# Altium schematic symbol library RespiradorLib.SchLib: 73 symbols
Pins are listed as number, name and electrical type; pins without a type are passive.

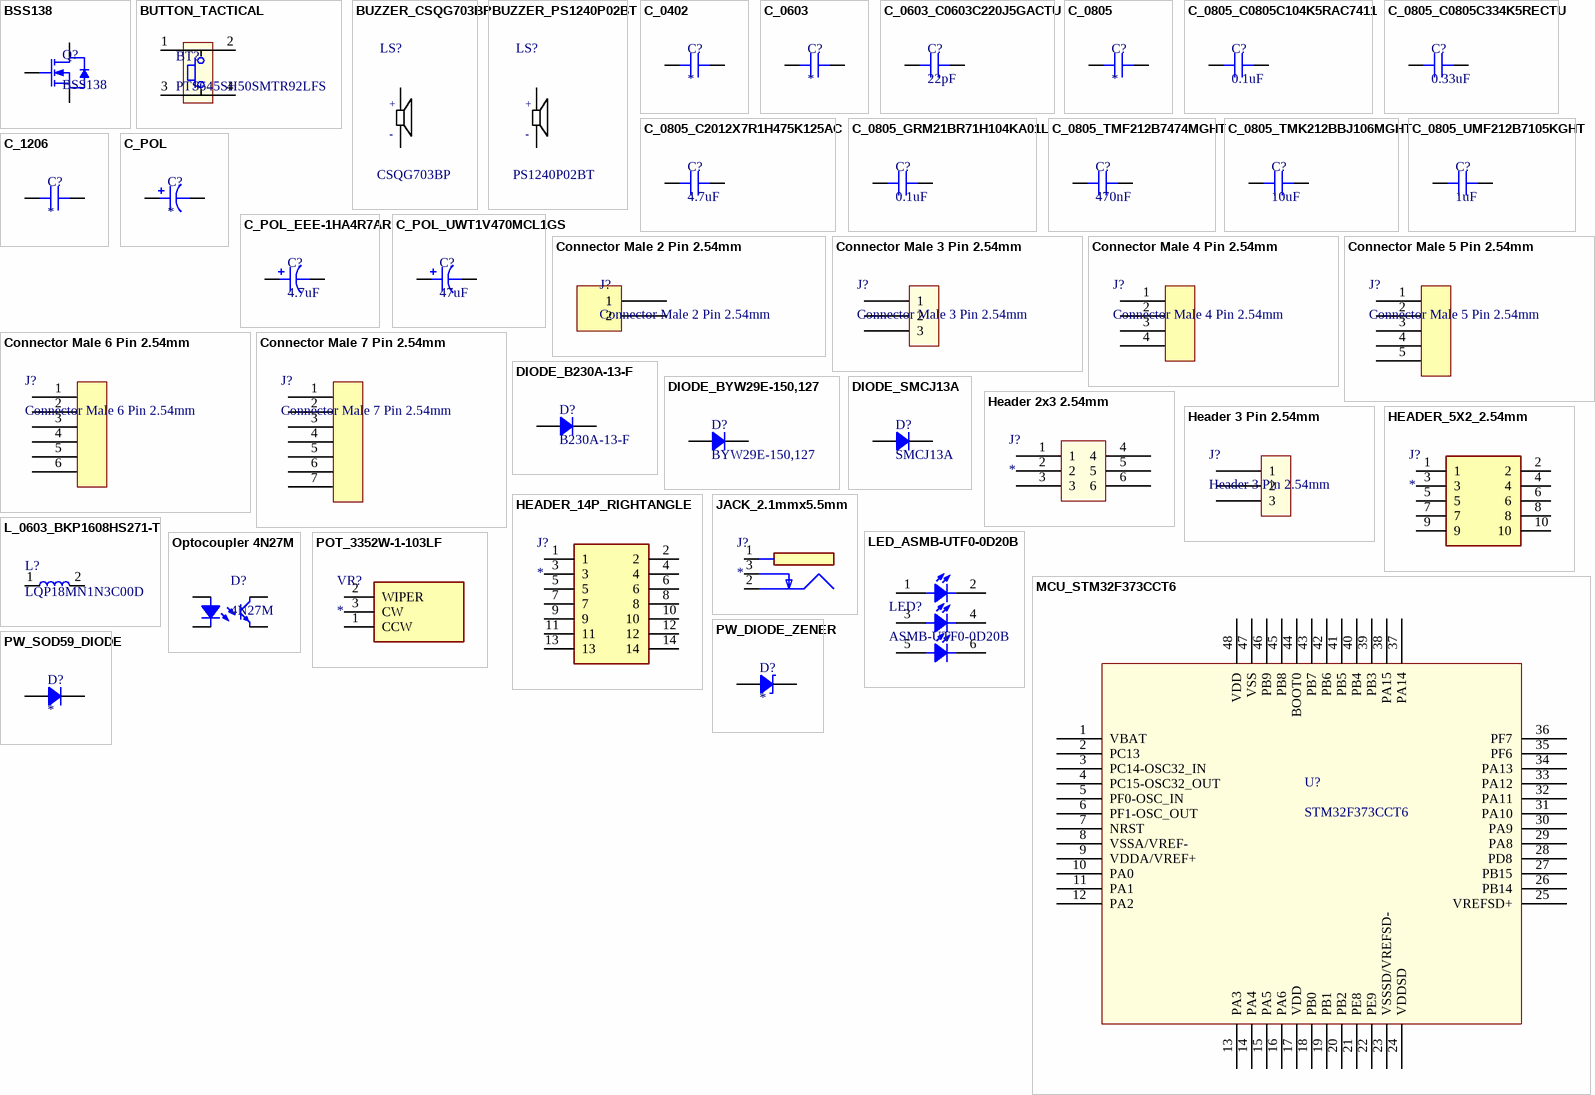
[diagram p0: symbols BSS138 to PW_SOD59_DIODE]

## BSS138
designator Q?
MOSFET SOT-23 N-CH LOGIC; Part Number: BSS138; Datasheet: https://br.mouser.com/datasheet/2/308/BSS138-D-1658842.pdf; Supplier: https://br.mouser.com/ProductDetail/ON-Semiconductor-Fairchild/BSS138?qs=sGAEpiMZZMshyDBzk1%2FWi1qxDdW%2FXBi2IwQV99jpxW8%3D
footprint SOT-23
pins: 1 G, 2 S, 3 D

## BUTTON_TACTICAL
designator BT?, comment PTS645SH50SMTR92LFS
Tactile Switches SWITCH TACTILE; Part Number: PTS645SH50SMTR92LFS; Datasheet: https://www.mouser.in/datasheet/2/60/pts645-1382776.pdf; Supplier: https://www.mouser.in/ProductDetail/CK/PTS645SH50SMTR92LFS?qs=FESYatJ8odJq4YGoPOs%2Fjw==
footprint BUTTON_TACTILE_6x6mm
pins: 1, 2, 3, 4

## BUZZER_CSQG703BP
designator LS?, comment CSQG703BP
BUZZER MAG 2.0KHZ 3V 12MM; Value: 2kHz; Part Number: CSQG703BP; Datasheet: https://www.mouser.in/datasheet/2/670/csqg703bp-1777646.pdf; Supplier: https://www.mouser.in/ProductDetail/CUI-Devices/CSQG703BP?qs=WyjlAZoYn50CcIWMleVumg==
footprint BUZZER_THT
pins: N, P
text: +; -

## BUZZER_PS1240P02BT
designator LS?, comment PS1240P02BT
Piezo Buzzer Round 12.2mmx6.5mm 4kHz Vin=3V; Value: 4kHz; Part Number: PS1240P02BT; Datasheet: https://br.mouser.com/datasheet/2/400/iezoelectronic_buzzer_ps_en-1131915.pdf; Supplier: https://br.mouser.com/ProductDetail/TDK/PS1240P02BT?qs=sGAEpiMZZMsK322k1rNFfYfXmCWsjkB8iQfg2vl062k%3D
footprint BUZZER_THT
pins: 1, 2
text: +; -

## C_0402
designator C?
Generic SMD 0402 Capacitor; Value: *; Voltage: *; Datasheet: *; Manufacturer: *; Supplier: *; Temperature: *; Part Number: *
pins: 1, 2

## C_0603
designator C?
Generic SMD 0603 Capacitor; Value: *; Voltage: *; Datasheet: *; Manufacturer: *; Supplier: *; Temperature: *; Part Number: *
footprint C_0603
pins: 1, 2

## C_0603_C0603C220J5GACTU
designator C?, comment 22pF
SMD/SMT 50V 22pF 0603 C0G 5%; Manufacturer: KEMET; Part Number: C0603C220J5GACTU; Value: 22pF; Voltage: 50V; Datasheet: https://www.mouser.in/datasheet/2/212/KEM_C1003_C0G_SMD-1101588.pdf; Supplier: https://www.mouser.in/ProductDetail/?qs=SdEwkH2X7htVYoqIlDdZ9g%3D%3D; Temperature: -55 to +125ºC
footprint C_0603
pins: 1, 2

## C_0805
designator C?
Generic SMD 0805 Capacitor; Value: *; Voltage: *; Datasheet: *; Manufacturer: *; Supplier: *; Temperature: *; Part Number: *
footprint C_0805
pins: 1, 2

## C_0805_C0805C104K5RAC7411
designator C?, comment 0.1uF
SMD/SMT 50V 0.1uF X7R 0805 10% Ceramic; Manufacturer: KEMET; Part Number: C0805C104K5RAC7411; Value: 0.1uF; Voltage: 50V; Datasheet: https://www.mouser.in/datasheet/2/212/KEM_C1002_X7R_SMD-1102033.pdf; Supplier: https://www.mouser.in/ProductDetail/KEMET/C0805C104K5RAC7411?qs=sGAEpiMZZMukHu%252BjC5l7YUy%2FB4dg%2FhTABr7B0xlsxU8%3D; Temperature: -55 to +125ºC
footprint C_0805
pins: 1, 2

## C_0805_C0805C334K5RECTU
designator C?, comment 0.33uF
SMD/SMT 50V 0.33uF X7R 0805 10%; Manufacturer: KEMET; Part Number: C0805C334K5RECTU; Value: 0.33uF; Voltage: 50V; Datasheet: https://br.mouser.com/datasheet/2/212/KEM_C1090_X7R_ESD-1103328.pdf; Supplier: https://br.mouser.com/ProductDetail/KEMET/C0805C334K5RECTU?qs=sGAEpiMZZMukHu%252BjC5l7YW4TDpT9cCWZSWBJF89q8JI%3D; Temperature: -55 to +125ºC
footprint C_0805
pins: 1, 2

## C_0805_C2012X7R1H475K125AC
designator C?, comment 4.7uF
SMD/SMT 0805 50VDC 4.7uF 10% X7R CERAMIC; Manufacturer: TDK; Part Number: C2012X7R1H475K125AC; Voltage: 50V; Value: 4.7uF; Datasheet: https://www.mouser.in/datasheet/2/400/lcc_commercial_general_en-837201.pdf; Supplier: https://www.mouser.in/ProductDetail/TDK/C2012X7R1H475K125AC?qs=sGAEpiMZZMukHu%252BjC5l7YTxxtVIkCgfDBgHpaxQ5Dmw%3D; Temperature: -55 to 125ºC
footprint C_0805
pins: 1, 2

## C_0805_GRM21BR71H104KA01L
designator C?, comment 0.1uF
CAP CER .1UF 50V 10% X7R 080; Part Number: GRM21BR71H104KA01L; Datasheet: https://br.mouser.com/datasheet/2/281/murata_03052018_GRM_Series_1-1310166.pdf; Supplier: https://br.mouser.com/ProductDetail/Murata-Electronics/GRM21BR71H104KA01L?qs=JovLnzPPZAL81o2XNDa%2FDA%3D%3D; Value: 0.1uF; Voltage: 50V
footprint C_0805
pins: 1, 2

## C_0805_TMF212B7474MGHT
designator C?, comment 470nF
SMD/SMT 0805 25V 0.47uF 20% AEC-Q200 CERAMIC; Manufacturer: Taiyo Yuden; Part Number: TMF212B7474MGHT; Value: 470nF; Voltage: 25V; Datasheet: https://www.mouser.in/datasheet/2/396/taiyo_yuden_07182019_MLCC_AECQ200_Grade_1_X7R_data-1622917.pdf; Supplier: https://www.mouser.in/ProductDetail/Taiyo-Yuden/TMF212B7474MGHT?qs=sGAEpiMZZMsG1k5vdNM%2Fc7bY%2FOucpQAyE73L7mDgTXo%3D; Temperature: -55 to +125ºC
footprint C_0805
pins: 1, 2

## C_0805_TMK212BBJ106MGHT
designator C?, comment 10uF
SMD/SMT 0805 25VDC 10uF 20% X5R AEC-Q200 CERAMIC; Manufacturer: Tayo Yuden; Part Number: TMK212BBJ106MGHT; Voltage: 25V; Value: 10uF; Datasheet: https://www.mouser.in/datasheet/2/396/taiyo_yuden_12132018_mlcc11_hq_e-1510082.pdf; Supplier: https://www.mouser.in/ProductDetail/Taiyo-Yuden/TMK212BBJ106MGHT?qs=sGAEpiMZZMtzPgOfznR9QaDzwJ03Pr9rLOL4CwkSISA%3D; Temperature: -55 to 125ºC
footprint C_0805
pins: 1, 2

## C_0805_UMF212B7105KGHT
designator C?, comment 1uF
SMD/SMT 0805 50V 1uF 10% AEC-Q200 Ceramic; Manufacturer: Taiyo Yuden; Part Number: UMF212B7105KGHT; Value: 1uF; Voltage: 50V; Datasheet: https://www.mouser.in/datasheet/2/396/taiyo_yuden_07182019_MLCC_AECQ200_Grade_1_X7R_data-1622917.pdf; Supplier: https://www.mouser.in/ProductDetail/Taiyo-Yuden/UMF212B7105KGHT?qs=sGAEpiMZZMukHu%252BjC5l7YbZJogKwR3uAsvk8LFV85oI%3D; Temperature: -55 to 125ºC
footprint C_0805
pins: 1, 2

## C_1206
designator C?
Generic SMD 1206 Capacitor; Value: *; Voltage: *; Datasheet: *; Manufacturer: *; Supplier: *; Temperature: *; Part Number: *
pins: 1, 2

## C_POL
designator C?
SMT Polarised Capacitor; Part Number: *; Datasheet: *; Supplier: *; Value: *; Voltage: *
footprint CAP_POL_D6.3MM_L5.8MM_H6.6MM
pins: 1, 2

## C_POL_EEE-1HA4R7AR
designator C?, comment 4.7uF
CAP ELECT 4.7UF 50V VS SMD; Part Number: EEE-1HA4R7AR; Datasheet: https://www.mouser.in/datasheet/2/315/ABA0000C1142-947446.pdf; Supplier: https://www.mouser.in/ProductDetail/Panasonic/EEE-1HA4R7AR?qs=d1CqaRUMZD931BLbVb3quQ%3D%3D; Value: 4.7uF; Voltage: 50V
footprint CAP_POL_D6.3MM_L5.8MM_H6.6MM
pins: 1, 2

## C_POL_UWT1V470MCL1GS
designator C?, comment 47uF
CAP 47UF 35V ELECT WT SMD D6.3MM L5.8MM H 6.6MM; Part Number: UWT1V470MCL1GS; Datasheet: https://br.mouser.com/datasheet/2/293/e-wt-30307.pdf; Supplier: https://br.mouser.com/ProductDetail/Nichicon/UWT1V470MCL1GS?qs=ljCeji4nMDl8Y30ehuNAUQ%3D%3D; Value: 47uF; Voltage: 35V
footprint CAP_POL_D6.3MM_L5.8MM_H6.6MM
pins: 1, 2

## Connector Male 2 Pin 2.54mm
designator J?
MOLEX Male 2 Pin 2.54mm; Datasheet: *; Supplier: *
pins: 1, 2

## Connector Male 3 Pin 2.54mm
designator J?
MOLEX Male 3 Pin 2.54mm; Datasheet: *; Supplier: *
pins: 1, 2, 3

## Connector Male 4 Pin 2.54mm
designator J?
MOLEX Male 4 Pin 2.54mm; Datasheet: *; Supplier: *
pins: 1, 2, 3, 4

## Connector Male 5 Pin 2.54mm
designator J?
MOLEX Male 5 Pin 2.54mm; Datasheet: *; Supplier: *
pins: 1, 2, 3, 4, 5

## Connector Male 6 Pin 2.54mm
designator J?
MOLEX Male 6 Pin 2.54mm; Datasheet: *; Supplier: *
pins: 1, 2, 3, 4, 5, 6

## Connector Male 7 Pin 2.54mm
designator J?
MOLEX Male 7 Pin 2.54mm; Datasheet: *; Supplier: *
pins: 1, 2, 3, 4, 5, 6, 7

## DIODE_B230A-13-F
designator D?, comment B230A-13-F
DIODE SCHOTTKY 30V 2A SMA; Part Number: B230A-13-F; Supplier: https://br.mouser.com/ProductDetail/Diodes-Incorporated/B230A-13-F?qs=CWr0IvVDl%2FzIzEFfZQUtSw%3D%3D; Datasheet: https://br.mouser.com/datasheet/2/115/ds13004-70120.pdf; Voltage: 30V; Power: *
footprint DO-214AC
pins: 1, 2

## DIODE_BYW29E-150,127
designator D?, comment BYW29E-150,127
DIODE RECT UFAST 150V TO220AC SOD59; Part Number: BYW29E-150,127; Supplier: https://br.mouser.com/ProductDetail/WeEn-Semiconductors/BYW29E-150127?qs=me8TqzrmIYVz9CWyXJlNFA%3D%3D; Datasheet: https://br.mouser.com/datasheet/2/848/byw29e-150-1520821.pdf; Voltage: 150V; Power: *
footprint TO-220-2
pins: 1, 2

## DIODE_SMCJ13A
designator D?, comment SMCJ13A
DIODE TVS 13V 1500W UNI 5% SMC DO-214AB-2_; Voltage: 150V; Part Number: SMCJ13A; Supplier: https://br.mouser.com/ProductDetail/Littelfuse/SMCJ13A?qs=JJML70Qc14udM04Txwcydg%3D%3D; Datasheet: https://br.mouser.com/datasheet/2/848/byw29e-150-1520821.pdf; Power: 1500W
footprint DO-214AB-2
pins: 1, 2

## Header 2x3 2.54mm
designator J?
Header Pin 3x2  2.54mm; Part Number: 87227-3; Datasheet: https://www.te.com/commerce/DocumentDelivery/DDEController?Action=srchrtrv&DocNm=87227&DocType=Customer+Drawing&DocLang=English&PartCntxt=87227-3&DocFormat=pdf; Supplier: https://br.mouser.com/ProductDetail/TE-Connectivity/87227-3?qs=VKrXD49J9EpsiWT5W3Xtnw==
footprint Header 3x2 2.54mm
pins: 1, 2, 3, 4, 5, 6

## Header 3 Pin 2.54mm
designator J?
Datasheet: https://br.mouser.com/datasheet/2/276/0022285033_PCB_HEADERS-159031.pdf; Supplier: https://br.mouser.com/ProductDetail/Molex/22-28-5033?qs=sGAEpiMZZMs%252BGHln7q6pmxD%2F5kNJnZVepHUluVJbZ54%3D
footprint Header 3 Pin 2.54mm
pins: 1, 2, 3

## HEADER_5X2_2.54mm
designator J?
Headers & Wire Housings 10 POSITION DBL. ROW; Part Number: 67997-410HLF; Datasheet: https://www.amphenol-icc.com/media/wysiwyg/files/documentation/datasheet/boardwiretoboard/bwb_bergstik.pdf; Supplier: https://www.mouser.in/ProductDetail/Amphenol-FCI/67997-410HLF?qs=sGAEpiMZZMsMLZWdhVL71zU2Dhk42U5G
footprint HEADER_5X2_2.54mm
pins: 1, 2, 3, 4, 5, 6, 7, 8, 9, 10

## HEADER_14P_RIGHTANGLE
designator J?
Header Right angle THT 2X7; Part Number: 10129382-914002BLF; Datasheet: https://cdn.amphenol-icc.com/media/wysiwyg/files/documentation/datasheet/boardwiretoboard/bwb_econostik_254headers.pdf; Supplier: https://www.mouser.in/ProductDetail/Amphenol-FCI/10129382-914002BLF?qs=sGAEpiMZZMve4%2FbfQkoj%252BHB6ZEiaBxPJNtcSGZNe8mE%3D
footprint HEADER_14P_RIGHT
pins: 1, 2, 3, 4, 5, 6, 7, 8, 9, 10, 11, 12, 13, 14

## JACK_2.1mmx5.5mm
designator J?
Jack/Connector 2.1mm x 5.5mm; Part Number: CON-SOCJ-2155; Manufacturer: Gravitech; Datasheet: http://www.gravitech.us/poja2x51.html; Supplier: https://br.mouser.com/ProductDetail/Gravitech/CON-SOCJ-2155?qs=sGAEpiMZZMvtrnhC60i%252BOueHg%2FyK0jmoLPszqcLww24%3D
footprint JACK_2.1mmx5.5mm
pins: 1, 2, 3

## L_0603_BKP1608HS271-T
designator L?, comment LQP18MN1N3C00D
FERRITE BEAD 270 OHM 0603; Value: 100MHz; Datasheet: https://www.mouser.in/datasheet/2/396/mlci08_e-1396622.pdf; Supplier: https://www.mouser.in/ProductDetail/Taiyo-Yuden/BKP1608HS271-T?qs=I6KAKw0tg2zbDi4vUs5b8A==
footprint *INDC1608X95
footprint L_0603
pins: 1, 2

## LED_ASMB-UTF0-0D20B
designator LED?, comment ASMB-UTF0-0D20B
SMD 2828 Tricolor PLCC6 LEDs; Forward Voltage: 2.1V; Forward Current: 25mA; Datasheet: https://docs.broadcom.com/doc/ASMB-UTF0-0D20B-DS100; Supplier: https://www.mouser.in/ProductDetail/Broadcom/ASMB-UTF0-0D20B?qs=sGAEpiMZZMtilyJihmhKq2AQS22fZSBSgD7nbSPNdwMclln52G2Icg%3D%3D; Part Number: ASMB-UTF0-0D20B
footprint LED_ASMB-UTF0-0D20B
pins: 1 RA, 2 RC, 3 GA, 4 GC, 5 BA, 6 BC

## MCU_STM32F373CCT6
designator U?, comment STM32F373CCT6
CORTEX-M4 ST MCU; Part Number: STM32F373CCT6; Datasheet: https://www.mouser.in/datasheet/2/389/dm00046749-1797329.pdf; Supplier: https://www.mouser.in/ProductDetail/STMicroelectronics/STM32F373CCT6?qs=sGAEpiMZZMts0YcPTleK%252BfFyenw%2F%252BoXO
footprint MCU_STM32F373CC7
pins: 1 VBAT, 2 PC13, 3 PC14-OSC32_IN, 4 PC15-OSC32_OUT, 5 PF0-OSC_IN, 6 PF1-OSC_OUT, 7 NRST, 8 VSSA/VREF-, 9 VDDA/VREF+, 10 PA0, 11 PA1, 12 PA2, 13 PA3, 14 PA4, 15 PA5, 16 PA6, 17 VDD, 18 PB0, 19 PB1, 20 PB2, 21 PE8, 22 PE9, 23 VSSSD/VREFSD-, 24 VDDSD, 25 VREFSD+, 26 PB14, 27 PB15, 28 PD8, 29 PA8, 30 PA9, 31 PA10, 32 PA11, 33 PA12, 34 PA13, 35 PF6, 36 PF7, 37 PA14, 38 PA15, 39 PB3, 40 PB4, 41 PB5, 42 PB6, 43 PB7, 44 BOOT0, 45 PB8, 46 PB9, 47 VSS, 48 VDD

## Optocoupler 4N27M
designator D?, comment 4N27M
4N27M OPTOCOUPLER TRANS-OUT 6-DIP; Part Number: 4N27M; Datasheet: https://br.mouser.com/datasheet/2/239/775704_1-1175530.pdf; Supplier: https://br.mouser.com/ProductDetail/Lite-On/4N27M?qs=gnaPJ2cis710wpcgziU08w%3D%3D
footprint DIP6
pins: 1, 2, 3, 4

## POT_3352W-1-103LF
designator VR?
Variable Resistor; Manufacturer_Name: Bourns; Manufacturer_Part_Number: 3352W-1-103LF; Datasheet Link: https://componentsearchengine.com/Datasheets/1/3352W-1-103LF.pdf; Height: 8mm; Mouser2 Part Number: 652-3352W-1-103LF; Mouser2 Price/Stock: https://www.mouser.com/Search/Refine.aspx?Keyword=652-3352W-1-103LF
footprint POT_3352W1103LF
pins: 1 CCW, 2 WIPER, 3 CW

## PW_DIODE_ZENER
designator D?
SMT Zener Diode; Datasheet: *; Part Number: *; Supplier: *; Voltage: *; Power: *
pins: 1, 2

## PW_SOD59_DIODE
designator D?
Power Diode; Part Number: *; Supplier: *; Datasheet: *; Voltage: *; Power: *
pins: 1, 2

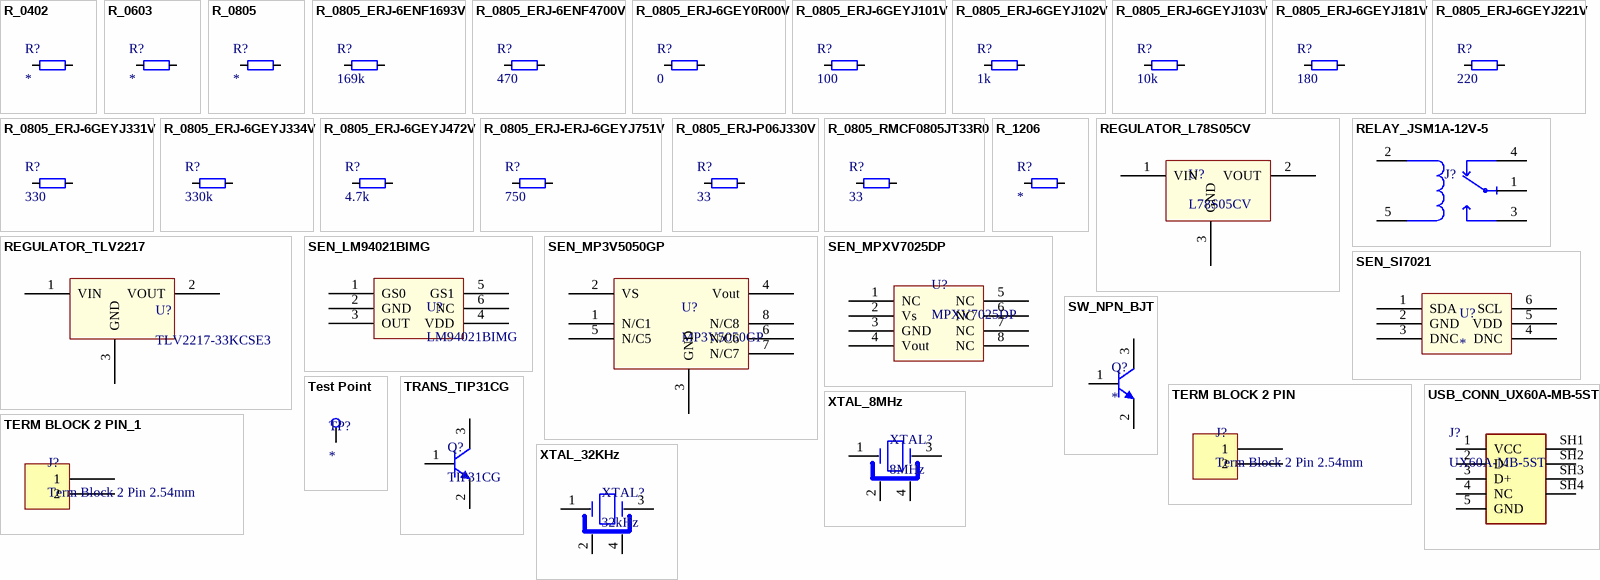
[diagram p1: symbols R_0402 to XTAL_32KHz]

## R_0402
designator R?
SMT 0402 RESISTOR; Value: *; Manufacturer: *; Supplier: *; Datasheet: *; Temperature: *; Part Number: *
pins: 1, 2

## R_0603
designator R?
SMT 0603 RESISTOR; Value: *; Manufacturer: *; Supplier: *; Datasheet: *; Temperature: *; Part Number: *
pins: 1, 2

## R_0805
designator R?
GENERIC SMT 0805 RESISTOR; Value: *; Manufacturer: *; Supplier: *; Datasheet: *; Temperature: *; Part Number: *
footprint R_0805
pins: 1, 2

## R_0805_ERJ-6ENF1693V
designator R?, comment 169k
RES 169K OHM 1/8W 1% 0805 SMD; Manufacturer: Panasonic - ECG; Part Number: ERJ-6ENF1693V; Value: 169k; Supplier: https://br.mouser.com/ProductDetail/Panasonic/ERJ-6ENF1693V?qs=JjxTDIFmKPT3B0pvSbNiDw%3D%3D; Datasheet: https://br.mouser.com/datasheet/2/315/AOA0000C304-1149620.pdf; Temperature: -55 to +155ºC
footprint R_0805
pins: 1, 2

## R_0805_ERJ-6ENF4700V
designator R?, comment 470
RES 470 OHM 1/8W 1% 0805 SMD; Manufacturer: Panasonic - ECG; Part Number: ERJ-6ENF4700V; Voltage: 150V; Value: 470; Supplier: https://br.mouser.com/ProductDetail/Panasonic/ERJ-6ENF4700V?qs=haJlXwgIYR1%252BMvNjPRrlhw%3D%3D; Datasheet: https://br.mouser.com/datasheet/2/315/AOA0000C304-1149620.pdf; Temperature: -55 to 155 ºC
footprint R_0805
pins: 1, 2

## R_0805_ERJ-6GEY0R00V
designator R?, comment 0
RES 0 OHM 1/8W 1% 0805 SMD; Manufacturer: Panasonic - ECG; Part Number: ERJ-6GEY0R00V; Value: 0; Supplier: https://br.mouser.com/ProductDetail/Panasonic/ERJ-6GEY0R00V?qs=tQNqqtTOejLLHbaWAzeH1w%3D%3D; Datasheet: https://br.mouser.com/datasheet/2/315/AOA0000C301-1488782.pdf; Temperature: -55 to +155ºC
footprint R_0805
pins: 1, 2

## R_0805_ERJ-6GEYJ101V
designator R?, comment 100
SMD 0805 100 OHM 5% AEC-Q200 1/8 W; Manufacturer: Panasonic - ECG; Part Number: ERJ-6GEYJ101V; Value: 100; Supplier: https://www.mouser.in/ProductDetail/Panasonic/ERJ-6GEYJ101V?qs=%2Fha2pyFaduiXHwl36i8QX1f35tjxZRQaem8SvM77FOq%252B6pZFta5%2F9g%3D%3D; Datasheet: https://www.mouser.in/datasheet/2/315/AOA0000C301-1488782.pdf; Temperature: -55 to +155ºC
footprint R_0805
pins: 1, 2

## R_0805_ERJ-6GEYJ102V
designator R?, comment 1k
SMD 0805 1K OHM 5% AEC-Q200; Manufacturer: Panasonic - ECG; Part Number: ERJ-6GEYJ102V; Value: 1k; Supplier: https://br.mouser.com/ProductDetail/Panasonic/ERJ-6GEYJ102V?qs=%2Fha2pyFaduiXHwl36i8QX1Is8RUpW4zS7XPMZn%2FLDmVYYw7P67RQlQ%3D%3D; Datasheet: https://br.mouser.com/datasheet/2/315/AOA0000C301-1488782.pdf; Temperature: -55 to +155ºC
footprint R_0805
pins: 1, 2

## R_0805_ERJ-6GEYJ103V
designator R?, comment 10k
RES 10K OHM 1/8W 5% 0805 SMD; Manufacturer: Panasonic - ECG; Part Number: ERJ-6GEYJ103V; Voltage: 150V; Value: 10k; Supplier: https://www.mouser.in/ProductDetail/Panasonic/ERJ-6GEYJ103V?qs=tQNqqtTOejK5rw%252BRxJVxUA==; Datasheet: https://www.mouser.in/datasheet/2/315/AOA0000C301-1488782.pdf; Temperature: -55 to +155ºC
footprint R_0805
pins: 1, 2

## R_0805_ERJ-6GEYJ181V
designator R?, comment 180
RES 180 OHM 1/8W 1% 0805 SMD; Manufacturer: Panasonic - ECG; Part Number: ERJ-6GEYJ181V; Value: 180; Supplier: https://br.mouser.com/ProductDetail/Panasonic/ERJ-6GEYJ181V?qs=8%252BG0TiN%2FgVrt6v%2F%2FVOHUqg%3D%3D; Datasheet: https://br.mouser.com/datasheet/2/315/AOA0000C301-1488782.pdf; Temperature: -55 to +155ºC
footprint R_0805
pins: 1, 2

## R_0805_ERJ-6GEYJ221V
designator R?, comment 220
RES 220 OHM 1/8W 5% 0805 SMD; Manufacturer: Panasonic - ECG; Part Number: ERJ-6GEYJ221V; Voltage: 150V; Value: 220; Supplier: https://www.mouser.in/ProductDetail/Panasonic/ERJ-6GEYJ221V?qs=mVvrpt%2FmFGaxvxGYT57NXw==; Datasheet: https://www.mouser.in/datasheet/2/315/AOA0000C301-1488782.pdf; Temperature: -55 to 155 ºC
footprint R_0805
pins: 1, 2

## R_0805_ERJ-6GEYJ331V
designator R?, comment 330
RES 330 OHM 1/8W 5% 0805 SMD; Manufacturer: Panasonic - ECG; Part Number: ERJ-6GEYJ331V; Voltage: 150V; Value: 330; Supplier: https://www.mouser.in/ProductDetail/Panasonic/ERJ-6GEYJ331V?qs=f9DM49H8yrPV03C%252BWLc%2FLQ==; Datasheet: https://www.mouser.in/datasheet/2/315/AOA0000C301-1488782.pdf; Temperature: -55 to +155ºC
footprint R_0805
pins: 1, 2

## R_0805_ERJ-6GEYJ334V
designator R?, comment 330k
RES 330K OHM 1/8W 1% 0805 SMD; Manufacturer: Panasonic - ECG; Part Number: ERJ-6GEYJ334V; Value: 330k; Supplier: https://br.mouser.com/ProductDetail/Panasonic/ERJ-6GEYJ334V?qs=YMBIwoNQYdWCfplxdeARkg%3D%3D; Datasheet: https://br.mouser.com/datasheet/2/315/AOA0000C301-1488782.pdf; Temperature: -55 to +155ºC
footprint R_0805
pins: 1, 2

## R_0805_ERJ-6GEYJ472V
designator R?, comment 4.7k
SMD 0805 4.7K OHM 5% AEC-Q200 Thick Film; Manufacturer: Panasonic; Part Number: ERJ-6GEYJ472V; Voltage: 150V; Value: 4.7k; Supplier: https://www.mouser.in/ProductDetail/Panasonic/ERJ-6GEYJ472V?qs=tQNqqtTOejJz%2FGQTI2SwEA==; Datasheet: https://www.mouser.in/datasheet/2/315/AOA0000C301-1488782.pdf; Temperature: -55 to +155ºC
footprint R_0805
pins: 1, 2

## R_0805_ERJ-ERJ-6GEYJ751V
designator R?, comment 750
SMD 0805 750 OHM 5% AEC-Q200; Manufacturer: Panasonic; Part Number: ERJ-6GEYJ751V; Voltage: 150V; Value: 750; Supplier: https://br.mouser.com/ProductDetail/Panasonic/ERJ-6GEYJ751V?qs=%2Fha2pyFaduiXHwl36i8QX0hu09VIkjbS%252B7Un%252BBpYHaXMOPUjNj5d7Q%3D%3D; Datasheet: https://br.mouser.com/datasheet/2/315/AOA0000C301-1488782.pdf; Temperature: -55 to +155ºC
footprint R_0805
pins: 1, 2

## R_0805_ERJ-P06J330V
designator R?, comment 33
SMD 0805 33 OHM 5% Thick Film Resistor; Manufacturer: Panasonic; Part Number: ERJ-P06J330V; Voltage: 400V; Value: 33; Supplier: https://www.mouser.in/ProductDetail/Panasonic/ERJ-P06J330V?qs=sGAEpiMZZMukHu%252BjC5l7YbwKxEUoaFnAyLqmg5nbr1s%3D; Datasheet: https://www.mouser.in/datasheet/2/315/AOA0000C331-1141874.pdf; Temperature: -55 to +155ºC
footprint R_0805
pins: 1, 2

## R_0805_RMCF0805JT33R0
designator R?, comment 33
RES 33 OHM 1/8W 5% 0805 SMD; Manufacturer: Stackpole Electronics Inc; Part Number: RMCF0805JT33R0; Value: 33; Supplier: https://www.digikey.com/product-detail/en/stackpole-electronics-inc/RMCF0805JT33R0/RMCF0805JT33R0CT-ND/1942534; Datasheet: https://www.seielect.com/catalog/sei-rmcf_rmcp.pdf; Temperature: -55 to 155 ºC
footprint R_0805
pins: 1, 2

## R_1206
designator R?
SMT 1206 RESISTOR; Value: *; Manufacturer: *; Supplier: *; Datasheet: *; Temperature: *; Part Number: *
pins: 1, 2

## REGULATOR_L78S05CV
designator U?, comment L78S05CV
IC REG POSITIVE 2A 5V TO-220; Part Number: L78S05CV; Datasheet: https://br.mouser.com/datasheet/2/389/l78s-974158.pdf; Supplier: https://br.mouser.com/ProductDetail/STMicroelectronics/L78S05CV-DG?qs=UOUhb9503hFQHy635AeyYA%3D%3D
footprint TO-220
pins: 1 VIN, 2 VOUT, 3 GND

## REGULATOR_TLV2217
designator U?, comment TLV2217-33KCSE3
IC LDO REG FXDVOLT 3.3V TO-220; Part Number: TLV2217-33KCSE3; Datasheet: http://www.ti.com/general/docs/suppproductinfo.tsp?distId=26&gotoUrl=http%3A%2F%2Fwww.ti.com%2Flit%2Fgpn%2Ftlv2217; Supplier: https://br.mouser.com/ProductDetail/Texas-Instruments/TLV2217-33KCSE3?qs=LVErsypW30y56XyeRJBjlA%3D%3D
footprint TO-220
pins: 1 VIN, 2 VOUT, 3 GND

## RELAY_JSM1A-12V-5
designator J?, comment JSM1A-12V-5  (value not drawn)
RELAY AUTO 15A 12VDC SEALED PCB; Part Number: JSM1A-12V-5; Current: 15A; Voltage: 12VDC; Datasheet: https://br.mouser.com/datasheet/2/315/Panasonic_09292016_JSM-1196930.pdf; Supplier: https://br.mouser.com/ProductDetail/Panasonic/JSM1a-12V-5?qs=wKtUvITRianAFjG9towesw%3D%3D
footprint RELAY_JSM1a-12V-5
pins: 1, 2, 3, 4, 5

## SEN_LM94021BIMG
designator U?, comment LM94021BIMG
IC TEMP SENSOR MULTI-GAIN SC70-5; Part Number: LM94021BIMG; Datasheet: http://www.ti.com/general/docs/suppproductinfo.tsp?distId=26&gotoUrl=http%3A%2F%2Fwww.ti.com%2Flit%2Fgpn%2Flm94021; Supplier: https://br.mouser.com/ProductDetail/Texas-Instruments/LM94021BIMG-NOPB?qs=QbsRYf82W3Gamc2uDn7DIw%3D%3D
footprint LM94021BIMG
pins: 1 GS0, 2 GND, 3 OUT, 4 VDD, 5 GS1, 6 NC

## SEN_MP3V5050GP
designator U?, comment MP3V5050GP
IC PRESSURE SENSOR 8-SOP 7PSI; Part Number: MP3V5050GP; Datasheet: https://br.mouser.com/datasheet/2/302/MP3V5050-1127012.pdf; Supplier: https://br.mouser.com/ProductDetail/NXP-Semiconductors/MP3V5050GP?qs=H%252BP%2FcHWii3cfygLO%2FUxqlg%3D%3D
footprint MP3V5050GP
pins: 1 N/C1, 2 VS, 3 GND, 4 Vout, 5 N/C5, 6 N/C6, 7 N/C7, 8 N/C8

## SEN_MPXV7025DP
designator U?, comment MPXV7025DP
-25 to 25 kPa Differential Pressure Sensor DUAL PORT 8-SOP; Part Number: MPXV7025DP; Datasheet: https://br.mouser.com/datasheet/2/302/MPXV7025-1127333.pdf; Supplier: https://br.mouser.com/ProductDetail/NXP-Semiconductors/MPXV7025DP?qs=r8OyiFxb6ReyFzMvnwyjmg%3D%3D
footprint MPXV7025DP
pins: 1 NC, 2 Vs, 3 GND, 4 Vout, 5 NC, 6 NC, 7 NC, 8 NC

## SEN_SI7021
designator U?
Humidity Sensors Digital RH ( 3% max) & temperature sensor, commercial grade with cover/filter; Supplier: https://br.mouser.com/ProductDetail/Silicon-Labs/SI7021-A20-GM1R?qs=sGAEpiMZZMsB9HsreUc%252BiUv%2FuYCFaXZo1mgPtJm187g%3D; Datasheet: https://br.mouser.com/datasheet/2/368/Si7021-A20-1397917.pdf
footprint SI7021_6DFN
pins: 1 SDA, 2 GND, 3 DNC, 4 DNC, 5 VDD, 6 SCL

## SW_NPN_BJT
designator Q?
NPN BJT SOT78; Part Number: *; Datasheet: *; Supplier: *
pins: 1 B, 2 E, 3 C

## TERM BLOCK 2 PIN
designator J?, comment Term Block 2 Pin 2.54mm
Datasheet: *; Supplier: *
footprint TERM_BLOCK2PIN
pins: 1, 2

## TERM BLOCK 2 PIN_1
designator J?, comment Term Block 2 Pin 2.54mm
CONN TERM BLOCK 2.54MM 2POS 125V 6A; Datasheet: https://media.digikey.com/pdf/Data%20Sheets/Phoenix%20Contact%20PDFs/1725656_Ds.pdf; Supplier: https://www.digikey.com/product-detail/en/phoenix-contact/1725656/277-1273-ND/267462
footprint TERM_BLOCK2PIN
pins: 1, 2

## Test Point
designator TP?
footprint Test_Point
pins: 1 TP

## TRANS_TIP31CG
designator Q?, comment TIP31CG
BJT 3A 100V 40W NPN; Part Number: TIP31CG; Datasheet: https://www.onsemi.com/pub/Collateral/TIP31A-D.PDF; Supplier: https://br.mouser.com/ProductDetail/?qs=xZq1yRCsb1d0GJkceBxz7Q%3D%3D
footprint TO-220
pins: 1 B, 2 E, 3 C

## USB_CONN_UX60A-MB-5ST
designator J?, comment UX60A-MB-5ST
USB Connector UX60A-MB-5ST; Height: 4mm; Datasheet: https://media.digikey.com/pdf/Data%20Sheets/Hirose%20PDFs/UX%20Series.pdf; Supplier: https://www.mouser.in/ProductDetail/Hirose-Connector/UX60A-MB-5ST?qs=XQjbzJWzFPVU%252BTtGLEiQTQ==; Part Number: UX60A-MB-5ST
footprint USB_CONN_SMT
pins: 1 VCC "VUSB", 2 D-, 3 D+, 4 NC, 5 GND, SH1 6, SH2 7, SH3 8, SH4 9

## XTAL_8MHz
designator XTAL?, comment 8MHz
ABRACON Crystals 8MHz; Part Number: ABMM2-8.000MHZ-E2-T; Datasheet: https://www.mouser.in/datasheet/2/3/ABMM2-1775066.pdf; Supplier: https://www.mouser.in/ProductDetail/?qs=m%252BUhWDcpCfaGlLHGChx47g%3D%3D; Frequency: 8MHz
footprint WMRAG32K76CS1C00R0
footprint XTAL_8MHZ
pins: 1, 2, 3, 4

## XTAL_32KHz
designator XTAL?, comment 32kHz
Resonators 3VDC 8pF 20ppm 75kohm; Part Number: WMRAG32K76CS1C00R0; Datasheet: https://www.mouser.in/datasheet/2/281/SPEC-WMRAG32K76CS1C00R0-1626879.pdf; Supplier: https://www.mouser.in/ProductDetail/Murata-Electronics/WMRAG32K76CS1C00R0?qs=bZr6mbWTK5kG3rTMuRELCg==; Frequency: 32kHz
footprint WMRAG32K76CS1C00R0
footprint XTAL_32KHz
pins: 1, 2, 3, 4